# EAGLE library part POTENTIOMETER_TANDEM_91A2A (library 1A-meinLib)
Tandempotentiometer, Typ 91 A 2 A - B 28 B, Bourns
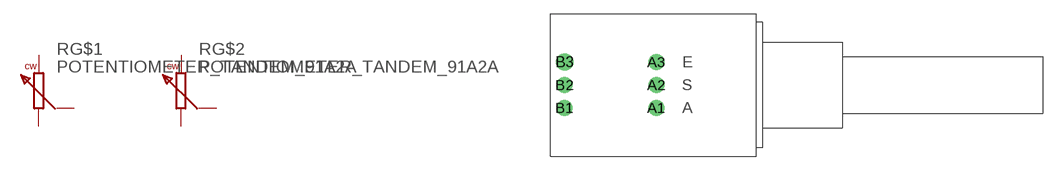
[diagram p272: symbol with the pads of POTENTIOMETER_TANDEM_91A2A; footprint POTENTIOMETER_TANDEM_91A2A]

Designator prefix R; gates G$1=POTENTIOMETER G$2=POTENTIOMETER

## POTENTIOMETER_TANDEM_91A2A  [POTENTIOMETER_TANDEM_91A2A]
A1  G$1:A  pas
A2  G$1:S
A3  G$1:E  pas
B1  G$2:A  pas
B2  G$2:S
B3  G$2:E  pas

## Footprint POTENTIOMETER_TANDEM_91A2A (pad centres in mm)
Tandempotentiometer, Typ 91 A 2 A - B 28 B, Bourns
drill 1 pad 1.778 round: A1 0,-2.54; A2 0,0; A3 0,2.54; B1 -10.16,-2.54; B2 -10.16,0
drill 1 pad 1.93 round: B3 -10.16,2.54